# EAGLE library part MCP4725 (library HelaTronix - Modules)
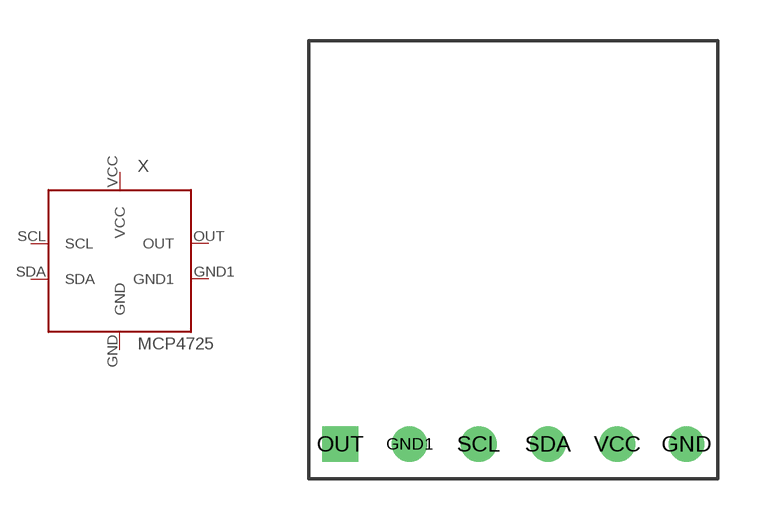
[diagram p3: symbol with the pads of MCP4725; footprint MCP4725]

Designator prefix X

## MCP4725  [MCP4725]
GND  GND
GND1  GND1
OUT  OUT
SCL  SCL
SDA  SDA
VCC  VCC

## Footprint MCP4725 (pad centres in mm)
drill 0.8: GND 6.35,0; GND1 -3.81,0; SCL -1.27,0; SDA 1.27,0; VCC 3.81,0
drill 0.8 square: OUT -6.35,0